# EAGLE library part WE-FLEXHV_EFD20 (library WE-FLEX HV)
WE-FLEX HV Flexible Transformer for DC/DC Converter Characteristics Transformer with 6 identical windings 4 sizes with 5 different lengths of air gap each Isolation voltage up to 1.5 kVAC Low leakage inductance Operating temperature: –40 ºC to +125 ºC By using different circuits more than 375 transformer solutions and about 125 choke solutions possible. Consequently, quick prototyping possibilities EFD size parts provide Basic insulation for a working voltage of 250VRMS when they are connteced approbiate Applications Flyback converters Forward converters Push-pull converters Step-up/step-down converters SEPIC <https://katalog.we-online.com/media/images/v2/o97648v209%20Family_WE-FLEX_HV_749196xxx_4C_NEU.jpg> Details see: https://katalog.we-online.com/en/pbs/WE-FLEXHV#vs_ct:3 Updated by Yingchun Shan 2019-08-19 20179(C) Wurth Elektronik
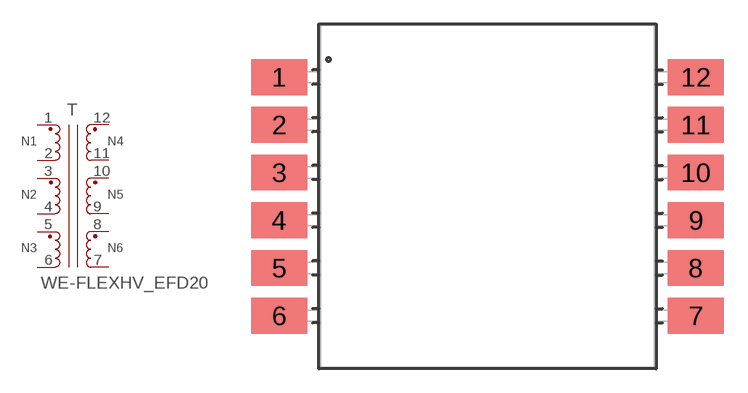
[diagram p2: symbol with the pads of WE-FLEXHV_EFD20; footprint WE-FLEXHV_EFD20]

Designator prefix T

## WE-FLEXHV_EFD20_749196507 (DATASHEET-URL: https://katalog.we-online.com/pbs/datasheet/749196507.pdf; IRBASE: 2.3A; ISATBASE: 0.16A; LSBASE: 0.18uH; N: 1:1:1:1:1:1; PART-NUMBER: 749196507; RDCBASE: 36mOhm; VALUE: 87.1uH; VOLTAGE-USECONDBASE: 83.6uVs; VT: 1500V(AC)), WE-FLEXHV_EFD20_749196508 (DATASHEET-URL: https://katalog.we-online.com/pbs/datasheet/749196508.pdf; IRBASE: 1.35A; ISATBASE: 0.1A; LSBASE: 0.24uH; N: 1:1:1:1:1:1; PART-NUMBER: 749196508; RDCBASE: 102mOhm; VALUE: 196uH; VOLTAGE-USECONDBASE: 123.4uVs; VT: 1500V(AC)), WE-FLEXHV_EFD20_749196517 (DATASHEET-URL: https://katalog.we-online.com/pbs/datasheet/749196517.pdf; IRBASE: 2.3A; ISATBASE: 1.35A; LSBASE: 0.18uH; N: 1:1:1:1:1:1; PART-NUMBER: 749196517; RDCBASE: 36mOhm; VALUE: 9.9uH; VOLTAGE-USECONDBASE: 83.6uVs; VT: 1500V(AC)), WE-FLEXHV_EFD20_749196518 (DATASHEET-URL: https://katalog.we-online.com/pbs/datasheet/749196518.pdf; IRBASE: 1.35A; ISATBASE: 0.93A; LSBASE: 0.24uH; N: 1:1:1:1:1:1; PART-NUMBER: 749196518; RDCBASE: 102mOhm; VALUE: 22.3uH; VOLTAGE-USECONDBASE: 123.4uVs; VT: 1500V(AC)), WE-FLEXHV_EFD20_749196527 (DATASHEET-URL: https://katalog.we-online.com/pbs/datasheet/749196527.pdf; IRBASE: 2.3A; ISATBASE: 2.81A; LSBASE: 0.18uH; N: 1:1:1:1:1:1; PART-NUMBER: 749196527; RDCBASE: 36mOhm; VALUE: 5.3uH; VOLTAGE-USECONDBASE: 83.6uVs; VT: 1500V(AC)), WE-FLEXHV_EFD20_749196528 (DATASHEET-URL: https://katalog.we-online.com/pbs/datasheet/749196528.pdf; IRBASE: 1.35A; ISATBASE: 1.71A; LSBASE: 0.24uH; N: 1:1:1:1:1:1; PART-NUMBER: 749196528; RDCBASE: 102mOhm; VALUE: 12uH; VOLTAGE-USECONDBASE: 123.4uVs; VT: 1500V(AC)), WE-FLEXHV_EFD20_749196537 (DATASHEET-URL: https://katalog.we-online.com/pbs/datasheet/749196537.pdf; IRBASE: 2.3A; ISATBASE: 3.24A; LSBASE: 0.18uH; N: 1:1:1:1:1:1; PART-NUMBER: 749196537; RDCBASE: 36mOhm; VALUE: 4.3uH; VOLTAGE-USECONDBASE: 83.6uVs; VT: 1500V(AC)), WE-FLEXHV_EFD20_749196538 (DATASHEET-URL: https://katalog.we-online.com/pbs/datasheet/749196538.pdf; IRBASE: 1.35A; ISATBASE: 2.2A; LSBASE: 0.24uH; N: 1:1:1:1:1:1; PART-NUMBER: 749196538; RDCBASE: 102mOhm; VALUE: 9.7uH; VOLTAGE-USECONDBASE: 123.4uVs; VT: 1500V(AC)), WE-FLEXHV_EFD20_749196547 (DATASHEET-URL: https://katalog.we-online.com/pbs/datasheet/749196547.pdf; IRBASE: 2.3A; ISATBASE: 3.93A; LSBASE: 0.18uH; N: 1:1:1:1:1:1; PART-NUMBER: 749196547; RDCBASE: 36mOhm; VALUE: 3.4uH; VOLTAGE-USECONDBASE: 83.6uVs; VT: 1500V(AC)), WE-FLEXHV_EFD20_749196548 (DATASHEET-URL: https://katalog.we-online.com/pbs/datasheet/749196548.pdf; IRBASE: 1.35A; ISATBASE: 2.98A; LSBASE: 0.24uH; N: 1:1:1:1:1:1; PART-NUMBER: 749196548; RDCBASE: 102mOhm; VALUE: 7.6uH; VOLTAGE-USECONDBASE: 123.4uVs; VT: 1500V(AC))  [WE-FLEXHV_EFD20]
1  1  pas
2  2  pas
3  3  pas
4  4  pas
5  5  pas
6  6  pas
7  7  pas
8  8  pas
9  9  pas
10  10  pas
11  11  pas
12  12  pas

## Footprint WE-FLEXHV_EFD20 (pad centres in mm)
WE-FLEX HV Flexible Transformer for DC/DC Converter Size: EFD20 SMD 12Pin
smd 3.5 x 2.25: 1 -13.1,7.5; 2 -13.1,4.5; 3 -13.1,1.5; 4 -13.1,-1.5; 5 -13.1,-4.5; 6 -13.1,-7.5; 7 13.1,-7.5; 8 13.1,-4.5; 9 13.1,-1.5; 10 13.1,1.5; 11 13.1,4.5; 12 13.1,7.5